# Altium integrated library NSC Audio.IntLib: 691 symbols (part 17 of 18)
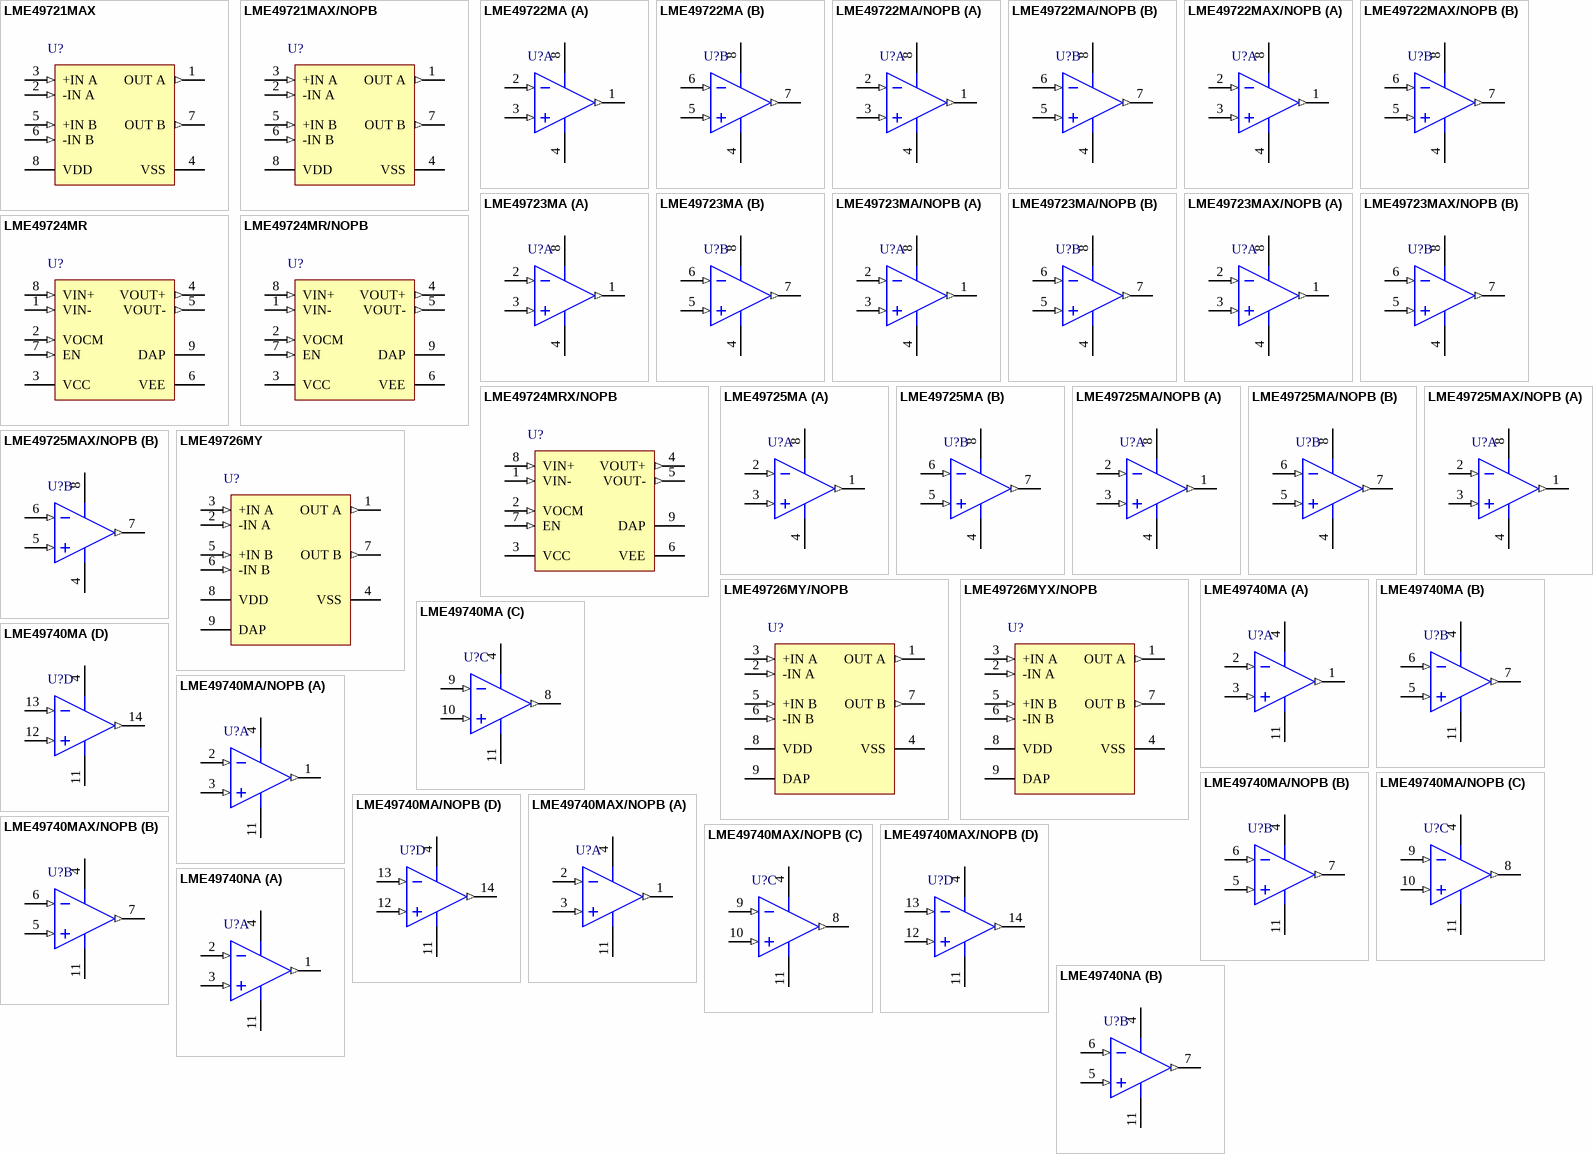
[diagram p43: symbols LME49721MAX to LME49740NA]

## LME49726MY
designator U?
High Current, Low Distortion Rail-to-Rail Output Audio Operational Amplifier, 9-pin eMSOP; PartNumber: LME49726MY; Manufacturer: National Semiconductor; PackageTopMarking: ZXTT*ZA3; PowerWise: N; CompType: Audio IC; Published: 4-Dec-2008; DatasheetVersion: Nov-2008; PackageVersion: revA, Nov-2003; PackageReference: MUY08A; Publisher: Altium Limited; PackageDescription: Molded Mini-SO, Exposed Pad, .118 x .118 x .034in Body, 8 Lead, .0256in Pitch; RoHS: Y; PinCount: 8; Code_JEDEC: MO-187-AA; ComponentLink1Description: LME49726 Datasheet; ComponentLink1URL: http://www.national.com/ds/LM/LME49726.pdf; ComponentLink2Description: LME49726 Web Page; ComponentLink2URL: http://www.national.com/pf/LM/LME49726.html; ComponentLink3Description: MUY08A Package Page; ComponentLink3URL: http://www.national.com/packaging/folders/muy08a.html
footprint MUY08A_N (TSOP, 8-Leads, Body 3x3mm, Pitch 0.65mm, Exposed Pad, IPC Medium Density)
footprint MUY08A_L (TSOP, 8-Leads, Body 3x3mm, Pitch 0.65mm, Exposed Pad, IPC High Density)
footprint MUY08A_M (TSOP, 8-Leads, Body 3x3mm, Pitch 0.65mm, Exposed Pad, IPC Low Density)
pins: 1 OUT A (out), 2 -IN A (in), 3 +IN A (in), 4 VSS (power), 5 +IN B (in), 6 -IN B (in), 7 OUT B (out), 8 VDD (power), 9 DAP (power)

## LME49726MY/NOPB
designator U?
High Current, Low Distortion Rail-to-Rail Output Audio Operational Amplifier, 8-pin Mini SOIC-EP, Pb-Free; PartNumber: LME49726MY/NOPB; Manufacturer: National Semiconductor; PackageTopMarking: ZXTT*ZA3; PowerWise: N; CompType: Audio IC; Published: 1-Mar-2010; DatasheetVersion: Nov-2008; PackageVersion: revA, Nov-2003; PackageReference: MUY08A; Publisher: Altium Limited; PackageDescription: Molded Mini-SO, Exposed Pad, .118 x .118 x .034in Body, 8 Lead, .0256in Pitch; Supplier 1: Digi-Key; Supplier Part Number 1: LME49726MYTR-ND; Supplier 2: Digi-Key; Supplier Part Number 2: LME49726MYCT-ND; Supplier 3: Digi-Key; Supplier Part Number 3: LME49726MYDKR-ND; RoHS: Y; PinCount: 8; Code_JEDEC: MO-187-AA; ComponentLink1Description: LME49726 Datasheet; ComponentLink1URL: http://www.national.com/ds/LM/LME49726.pdf; ComponentLink2Description: LME49726 Web Page; ComponentLink2URL: http://www.national.com/pf/LM/LME49726.html; ComponentLink3Description: MUY08A Package Page; ComponentLink3URL: http://www.national.com/packaging/folders/muy08a.html
footprint MUY08A_N (TSOP, 8-Leads, Body 3x3mm, Pitch 0.65mm, Exposed Pad, IPC Medium Density)
footprint MUY08A_L (TSOP, 8-Leads, Body 3x3mm, Pitch 0.65mm, Exposed Pad, IPC High Density)
footprint MUY08A_M (TSOP, 8-Leads, Body 3x3mm, Pitch 0.65mm, Exposed Pad, IPC Low Density)
pins: 1 OUT A (out), 2 -IN A (in), 3 +IN A (in), 4 VSS (power), 5 +IN B (in), 6 -IN B (in), 7 OUT B (out), 8 VDD (power), 9 DAP (power)

## LME49726MYX/NOPB
designator U?
High Current, Low Distortion Rail-to-Rail Output Audio Operational Amplifier, 8-pin Mini SOIC-EP, Pb-Free; PartNumber: LME49726MYX/NOPB; Manufacturer: National Semiconductor; PackageTopMarking: ZXTT*ZA3; PowerWise: N; CompType: Audio IC; Published: 1-Mar-2010; DatasheetVersion: Nov-2008; PackageVersion: revA, Nov-2003; PackageReference: MUY08A; Publisher: Altium Limited; PackageDescription: Molded Mini-SO, Exposed Pad, .118 x .118 x .034in Body, 8 Lead, .0256in Pitch; Supplier 1: Digi-Key; Supplier Part Number 1: LME49726MYX-ND; RoHS: Y; PinCount: 8; Code_JEDEC: MO-187-AA; ComponentLink1Description: LME49726 Datasheet; ComponentLink1URL: http://www.national.com/ds/LM/LME49726.pdf; ComponentLink2Description: LME49726 Web Page; ComponentLink2URL: http://www.national.com/pf/LM/LME49726.html; ComponentLink3Description: MUY08A Package Page; ComponentLink3URL: http://www.national.com/packaging/folders/muy08a.html
footprint MUY08A_N (TSOP, 8-Leads, Body 3x3mm, Pitch 0.65mm, Exposed Pad, IPC Medium Density)
footprint MUY08A_L (TSOP, 8-Leads, Body 3x3mm, Pitch 0.65mm, Exposed Pad, IPC High Density)
footprint MUY08A_M (TSOP, 8-Leads, Body 3x3mm, Pitch 0.65mm, Exposed Pad, IPC Low Density)
pins: 1 OUT A (out), 2 -IN A (in), 3 +IN A (in), 4 VSS (power), 5 +IN B (in), 6 -IN B (in), 7 OUT B (out), 8 VDD (power), 9 DAP (power)

## LME49740MA
designator U?
Quad High Performance, High Fidelity Audio Operational Amplifier, 14-pin Narrow SOIC; PartNumber: LME49740MA; Manufacturer: National Semiconductor; PackageTopMarking: NSUZXYTT*LME49740*MA; PowerWise: Y; CompType: Audio IC; Published: 4-Dec-2008; LatestRevisionDate: 01-Mar-2010; LatestRevisionNote: Sch layout changed.; DatasheetVersion: Feb-2008; PackageVersion: revJ, Jan-1996; PackageReference: M14A; Publisher: Altium Limited; PackageDescription: Molded Package S.O., .150in Wide, 14 Lead; Supplier 1: Farnell; Supplier Part Number 1: 1433168; RoHS: Y; PinCount: 14; Code_JEDEC: MS-012AB; Code_IPC: SOIC127P600-14; ComponentLink1Description: LME49740 Datasheet; ComponentLink1URL: http://www.national.com/ds/LM/LME49740.pdf; ComponentLink2Description: LME49740 Web Page; ComponentLink2URL: http://www.national.com/pf/LM/LME49740.html; ComponentLink3Description: M14A Package Page; ComponentLink3URL: http://www.national.com/packaging/folders/m14a.html
footprint M14A_N (SOIC, 14-Leads, Body 8.6x3.9mm, Pitch 1.27mm, IPC Medium Density)
footprint M14A_L (SOIC, 14-Leads, Body 8.6x3.9mm, Pitch 1.27mm, IPC High Density)
footprint M14A_M (SOIC, 14-Leads, Body 8.6x3.9mm, Pitch 1.27mm, IPC Low Density)
pins on every part: 4 V+ (power), 11 V- (power)
part A pins: 1 OUT1 (out), 2 -IN1 (in), 3 +IN1 (in)
part B pins: 5 +IN2 (in), 6 -IN2 (in), 7 OUT2 (out)
part C pins: 8 OUT3 (out), 9 -IN3 (in), 10 +IN3 (in)
part D pins: 12 +IN4 (in), 13 -IN4 (in), 14 OUT4 (out)

## LME49740MA/NOPB
designator U?
Quad High Performance, High Fidelity Audio Operational Amplifier, 14-pin Narrow SOIC, Pb-Free; PartNumber: LME49740MA/NOPB; Manufacturer: National Semiconductor; PackageTopMarking: NSUZXYTTE#*LME49740*MA; PowerWise: Y; CompType: Audio IC; Published: 1-Mar-2010; DatasheetVersion: Feb-2008; PackageVersion: revJ, Jan-1996; PackageReference: M14A; Publisher: Altium Limited; PackageDescription: Molded Package S.O., .150in Wide, 14 Lead; Supplier 1: Digi-Key; Supplier Part Number 1: LME49740MA-ND; RoHS: Y; PinCount: 14; Code_JEDEC: MS-012AB; Code_IPC: SOIC127P600-14; ComponentLink1Description: LME49740 Datasheet; ComponentLink1URL: http://www.national.com/ds/LM/LME49740.pdf; ComponentLink2Description: LME49740 Web Page; ComponentLink2URL: http://www.national.com/pf/LM/LME49740.html; ComponentLink3Description: M14A Package Page; ComponentLink3URL: http://www.national.com/packaging/folders/m14a.html
footprint M14A_N (SOIC, 14-Leads, Body 8.6x3.9mm, Pitch 1.27mm, IPC Medium Density)
footprint M14A_L (SOIC, 14-Leads, Body 8.6x3.9mm, Pitch 1.27mm, IPC High Density)
footprint M14A_M (SOIC, 14-Leads, Body 8.6x3.9mm, Pitch 1.27mm, IPC Low Density)
simulation model LME49860 (SUBCKT)
pins on every part: 4 V+ (power), 11 V- (power)
part A pins: 1 OUT1 (out), 2 -IN1 (in), 3 +IN1 (in)
part B pins: 5 +IN2 (in), 6 -IN2 (in), 7 OUT2 (out)
part C pins: 8 OUT3 (out), 9 -IN3 (in), 10 +IN3 (in)
part D pins: 12 +IN4 (in), 13 -IN4 (in), 14 OUT4 (out)

## LME49740MAX/NOPB
designator U?
Quad High Performance, High Fidelity Audio Operational Amplifier, 14-pin Narrow SOIC, Pb-Free; PartNumber: LME49740MAX/NOPB; Manufacturer: National Semiconductor; PackageTopMarking: NSUZXYTTE#*LME49740*MA; PowerWise: Y; CompType: Audio IC; Published: 1-Mar-2010; DatasheetVersion: Feb-2008; PackageVersion: revJ, Jan-1996; PackageReference: M14A; Publisher: Altium Limited; PackageDescription: Molded Package S.O., .150in Wide, 14 Lead; Supplier 1: Digi-Key; Supplier Part Number 1: LME49740MAX-ND; RoHS: Y; PinCount: 14; Code_JEDEC: MS-012AB; Code_IPC: SOIC127P600-14; ComponentLink1Description: LME49740 Datasheet; ComponentLink1URL: http://www.national.com/ds/LM/LME49740.pdf; ComponentLink2Description: LME49740 Web Page; ComponentLink2URL: http://www.national.com/pf/LM/LME49740.html; ComponentLink3Description: M14A Package Page; ComponentLink3URL: http://www.national.com/packaging/folders/m14a.html
footprint M14A_N (SOIC, 14-Leads, Body 8.6x3.9mm, Pitch 1.27mm, IPC Medium Density)
footprint M14A_L (SOIC, 14-Leads, Body 8.6x3.9mm, Pitch 1.27mm, IPC High Density)
footprint M14A_M (SOIC, 14-Leads, Body 8.6x3.9mm, Pitch 1.27mm, IPC Low Density)
simulation model LME49860 (SUBCKT)
pins on every part: 4 V+ (power), 11 V- (power)
part A pins: 1 OUT1 (out), 2 -IN1 (in), 3 +IN1 (in)
part B pins: 5 +IN2 (in), 6 -IN2 (in), 7 OUT2 (out)
part C pins: 8 OUT3 (out), 9 -IN3 (in), 10 +IN3 (in)
part D pins: 12 +IN4 (in), 13 -IN4 (in), 14 OUT4 (out)

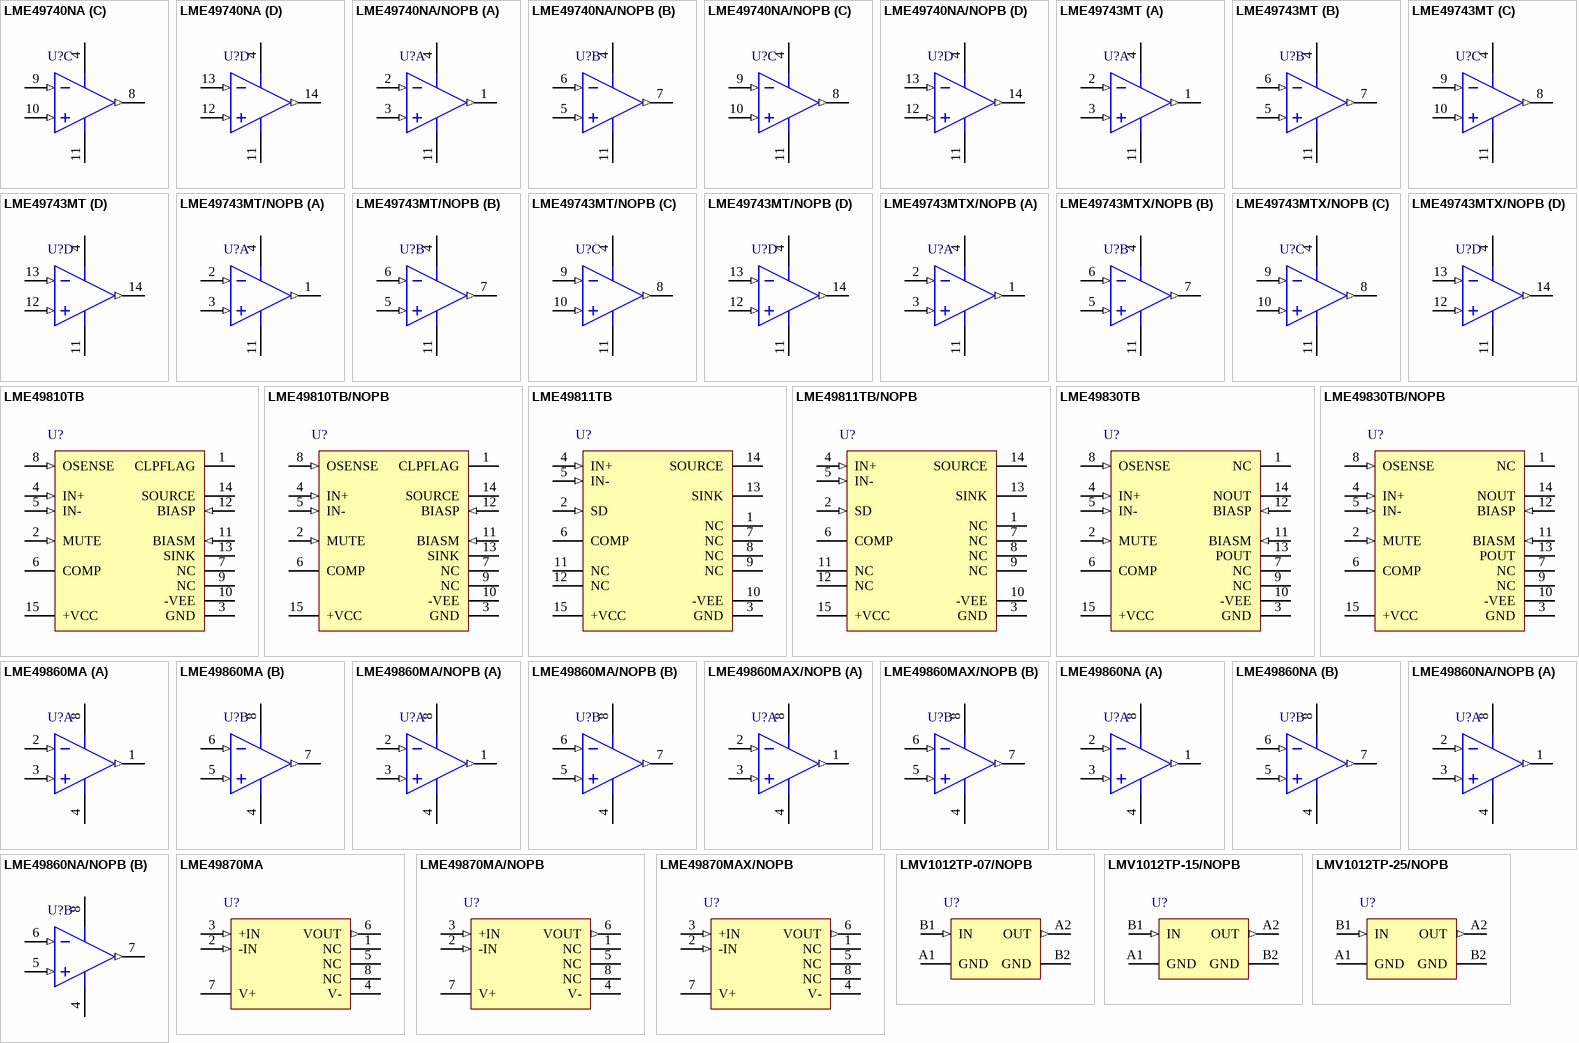
[diagram p25: symbols LME49740NA to LMV1012TP-25/NOPB]

## LME49740NA
designator U?
Quad High Performance, High Fidelity Audio Operational Amplifier, 14-pin MDIP; PartNumber: LME49740NA; Manufacturer: National Semiconductor; PackageTopMarking: NSUZXYYTTE#*LME49740NA; PowerWise: Y; CompType: Audio IC; Published: 4-Dec-2008; LatestRevisionDate: 01-Mar-2010; LatestRevisionNote: Sch layout changed.; DatasheetVersion: Feb-2008; PackageVersion: revG, May-2006; PackageReference: N14A; Publisher: Altium Limited; PackageDescription: MDIP, .750 x .250 x.130in, 14 Lead, .100in Pitch; Supplier 1: Farnell; Supplier Part Number 1: 1433169; RoHS: Y; PinCount: 14; Code_JEDEC: MS-001-AA; ComponentLink1Description: LME49740 Datasheet; ComponentLink1URL: http://www.national.com/ds/LM/LME49740.pdf; ComponentLink2Description: LME49740 Web Page; ComponentLink2URL: http://www.national.com/pf/LM/LME49740.html; ComponentLink3Description: N14A Package Page; ComponentLink3URL: http://www.national.com/packaging/folders/n14a.html
footprint N14A (DIP, 14-Leads, Row Spacing 7.62mm, Pitch 2.54mm, Body 19.56x6.35mm)
pins on every part: 4 V+ (power), 11 V- (power)
part A pins: 1 OUT1 (out), 2 -IN1 (in), 3 +IN1 (in)
part B pins: 5 +IN2 (in), 6 -IN2 (in), 7 OUT2 (out)
part C pins: 8 OUT3 (out), 9 -IN3 (in), 10 +IN3 (in)
part D pins: 12 +IN4 (in), 13 -IN4 (in), 14 OUT4 (out)

## LME49740NA/NOPB
designator U?
Quad High Performance, High Fidelity Audio Operational Amplifier, 14-pin MDIP, Pb-Free; PartNumber: LME49740NA/NOPB; Manufacturer: National Semiconductor; PackageTopMarking: NSUZXYYTTE#*LME49740NA; PowerWise: Y; CompType: Audio IC; Published: 1-Mar-2010; DatasheetVersion: Feb-2008; PackageVersion: revG, May-2006; PackageReference: N14A; Publisher: Altium Limited; PackageDescription: MDIP, .750 x .250 x.130in, 14 Lead, .100in Pitch; Supplier 1: Digi-Key; Supplier Part Number 1: LME49740NA-ND; Supplier 2: Farnell; Supplier Part Number 2: 1693911; RoHS: Y; PinCount: 14; Code_JEDEC: MS-001-AA; ComponentLink1Description: LME49740 Datasheet; ComponentLink1URL: http://www.national.com/ds/LM/LME49740.pdf; ComponentLink2Description: LME49740 Web Page; ComponentLink2URL: http://www.national.com/pf/LM/LME49740.html; ComponentLink3Description: N14A Package Page; ComponentLink3URL: http://www.national.com/packaging/folders/n14a.html
footprint N14A (DIP, 14-Leads, Row Spacing 7.62mm, Pitch 2.54mm, Body 19.56x6.35mm)
simulation model LME49860 (SUBCKT)
pins on every part: 4 V+ (power), 11 V- (power)
part A pins: 1 OUT1 (out), 2 -IN1 (in), 3 +IN1 (in)
part B pins: 5 +IN2 (in), 6 -IN2 (in), 7 OUT2 (out)
part C pins: 8 OUT3 (out), 9 -IN3 (in), 10 +IN3 (in)
part D pins: 12 +IN4 (in), 13 -IN4 (in), 14 OUT4 (out)

## LME49743MT
designator U?
Quad High Performance, High Fidelity Audio Operational Amplifier, 14-pin TSSOP; PartNumber: LME49743MT; Manufacturer: National Semiconductor; PackageTopMarking: NSUZXYTT*L49743*MT; PowerWise: N; CompType: Audio IC; Published: 4-Dec-2008; LatestRevisionDate: 01-Mar-2010; LatestRevisionNote: Sch layout changed.; DatasheetVersion: Jan-2009; PackageVersion: revD, Jun-2003; PackageReference: MTC14; Publisher: Altium Limited; PackageDescription: Molded TSSOP, JEDEC, 5 x 4.4 x 0.9mm Body, 14 Lead, 0.65mm Pitch; RoHS: Y; PinCount: 14; Code_JEDEC: MO-153-AB-1; ComponentLink1Description: LME49743 Datasheet; ComponentLink1URL: http://www.national.com/ds/LM/LME49743.pdf; ComponentLink2Description: LME49743 Web Page; ComponentLink2URL: http://www.national.com/pf/LM/LME49743.html; ComponentLink3Description: MTC14 Package Page; ComponentLink3URL: http://www.national.com/packaging/folders/mtc14.html
footprint MTC14_N (TSOP, 14-Leads, Body 5x4.4mm, Pitch 0.65mm, IPC Medium Density)
footprint MTC14_L (TSOP, 14-Leads, Body 5x4.4mm, Pitch 0.65mm, IPC High Density)
footprint MTC14_M (TSOP, 14-Leads, Body 5x4.4mm, Pitch 0.65mm, IPC Low Density)
pins on every part: 4 V+ (power), 11 V- (power)
part A pins: 1 OUT1 (out), 2 -IN1 (in), 3 +IN1 (in)
part B pins: 5 +IN2 (in), 6 -IN2 (in), 7 OUT2 (out)
part C pins: 8 OUT3 (out), 9 -IN3 (in), 10 +IN3 (in)
part D pins: 12 +IN4 (in), 13 -IN4 (in), 14 OUT4 (out)

## LME49743MT/NOPB
designator U?
Quad High Performance, High Fidelity Audio Operational Amplifier, 14-pin TSSOP, Pb-Free; PartNumber: LME49743MT/NOPB; Manufacturer: National Semiconductor; PackageTopMarking: NSUZXYTT*L49743*MT; PowerWise: N; CompType: Audio IC; Published: 1-Mar-2010; DatasheetVersion: Jan-2009; PackageVersion: revD, Jun-2003; PackageReference: MTC14; Publisher: Altium Limited; PackageDescription: Molded TSSOP, JEDEC, 5 x 4.4 x 0.9mm Body, 14 Lead, 0.65mm Pitch; Supplier 1: Digi-Key; Supplier Part Number 1: LME49743MT-ND; Supplier 2: Farnell; Supplier Part Number 2: 1685406; RoHS: Y; PinCount: 14; Code_JEDEC: MO-153-AB-1; ComponentLink1Description: LME49743 Datasheet; ComponentLink1URL: http://www.national.com/ds/LM/LME49743.pdf; ComponentLink2Description: LME49743 Web Page; ComponentLink2URL: http://www.national.com/pf/LM/LME49743.html; ComponentLink3Description: MTC14 Package Page; ComponentLink3URL: http://www.national.com/packaging/folders/mtc14.html
footprint MTC14_N (TSOP, 14-Leads, Body 5x4.4mm, Pitch 0.65mm, IPC Medium Density)
footprint MTC14_L (TSOP, 14-Leads, Body 5x4.4mm, Pitch 0.65mm, IPC High Density)
footprint MTC14_M (TSOP, 14-Leads, Body 5x4.4mm, Pitch 0.65mm, IPC Low Density)
pins on every part: 4 V+ (power), 11 V- (power)
part A pins: 1 OUT1 (out), 2 -IN1 (in), 3 +IN1 (in)
part B pins: 5 +IN2 (in), 6 -IN2 (in), 7 OUT2 (out)
part C pins: 8 OUT3 (out), 9 -IN3 (in), 10 +IN3 (in)
part D pins: 12 +IN4 (in), 13 -IN4 (in), 14 OUT4 (out)

## LME49743MTX/NOPB
designator U?
Quad High Performance, High Fidelity Audio Operational Amplifier, 14-pin TSSOP, Pb-Free; PartNumber: LME49743MTX/NOPB; Manufacturer: National Semiconductor; PackageTopMarking: NSUZXYTT*L49743*MT; PowerWise: N; CompType: Audio IC; Published: 1-Mar-2010; DatasheetVersion: Jan-2009; PackageVersion: revD, Jun-2003; PackageReference: MTC14; Publisher: Altium Limited; PackageDescription: Molded TSSOP, JEDEC, 5 x 4.4 x 0.9mm Body, 14 Lead, 0.65mm Pitch; Supplier 1: Digi-Key; Supplier Part Number 1: LME49743MTX-ND; RoHS: Y; PinCount: 14; Code_JEDEC: MO-153-AB-1; ComponentLink1Description: LME49743 Datasheet; ComponentLink1URL: http://www.national.com/ds/LM/LME49743.pdf; ComponentLink2Description: LME49743 Web Page; ComponentLink2URL: http://www.national.com/pf/LM/LME49743.html; ComponentLink3Description: MTC14 Package Page; ComponentLink3URL: http://www.national.com/packaging/folders/mtc14.html
footprint MTC14_N (TSOP, 14-Leads, Body 5x4.4mm, Pitch 0.65mm, IPC Medium Density)
footprint MTC14_L (TSOP, 14-Leads, Body 5x4.4mm, Pitch 0.65mm, IPC High Density)
footprint MTC14_M (TSOP, 14-Leads, Body 5x4.4mm, Pitch 0.65mm, IPC Low Density)
pins on every part: 4 V+ (power), 11 V- (power)
part A pins: 1 OUT1 (out), 2 -IN1 (in), 3 +IN1 (in)
part B pins: 5 +IN2 (in), 6 -IN2 (in), 7 OUT2 (out)
part C pins: 8 OUT3 (out), 9 -IN3 (in), 10 +IN3 (in)
part D pins: 12 +IN4 (in), 13 -IN4 (in), 14 OUT4 (out)

## LME49810TB
designator U?
200V Audio Power Amplifier Driver with Baker Clamp, 15-pin TO-247; PartNumber: LME49810TB; Manufacturer: National Semiconductor; PackageTopMarking: NSUZXYTT*LME49810*TB; PowerWise: N; CompType: Audio IC; Published: 4-Dec-2008; DatasheetVersion: Sep-2007; PackageVersion: revA, Feb-2005; PackageReference: TB15A; Publisher: Altium Limited; PackageDescription: TO-247, Molded, 19.0 x 11.5 x 2.54mm, 15 Lead, 0.965mm Pitch; Supplier 1: Farnell; Supplier Part Number 1: 1433160; RoHS: Y; PinCount: 15; ComponentLink1Description: LME49810 Datasheet; ComponentLink1URL: http://www.national.com/ds/LM/LME49810.pdf; ComponentLink2Description: LME49810 Web Page; ComponentLink2URL: http://www.national.com/pf/LM/LME49810.html; ComponentLink3Description: TB15A Package Page; ComponentLink3URL: http://www.national.com/packaging/folders/tb15a.html
footprint TB15A (In-Line; 15 Zig-Zag Leads; Body 19 x 2.54mm; Pitch 0.965mm)
pins: 1 CLPFLAG (oc), 2 MUTE (in), 3 GND (power), 4 IN+ (in), 5 IN- (in), 6 COMP, 7 NC, 8 OSENSE (in), 9 NC, 10 -VEE (power), 11 BIASM (in), 12 BIASP (in), 13 SINK (oc), 14 SOURCE (oe), 15 +VCC (power)

## LME49810TB/NOPB
designator U?
200V Audio Power Amplifier Driver with Baker Clamp, 15-pin TO-247, Pb-Free; PartNumber: LME49810TB/NOPB; Manufacturer: National Semiconductor; PackageTopMarking: NSUZXYTTE#*LME49810*TB; PowerWise: N; CompType: Audio IC; Published: 1-Mar-2010; DatasheetVersion: Sep-2007; PackageVersion: revA, Feb-2005; PackageReference: TB15A; Publisher: Altium Limited; PackageDescription: TO-247, Molded, 19.0 x 11.5 x 2.54mm, 15 Lead, 0.965mm Pitch; Supplier 1: Digi-Key; Supplier Part Number 1: LME49810TB-ND; Supplier 2: Farnell; Supplier Part Number 2: 1694353; RoHS: Y; PinCount: 15; ComponentLink1Description: LME49810 Datasheet; ComponentLink1URL: http://www.national.com/ds/LM/LME49810.pdf; ComponentLink2Description: LME49810 Web Page; ComponentLink2URL: http://www.national.com/pf/LM/LME49810.html; ComponentLink3Description: TB15A Package Page; ComponentLink3URL: http://www.national.com/packaging/folders/tb15a.html
footprint TB15A (In-Line; 15 Zig-Zag Leads; Body 19 x 2.54mm; Pitch 0.965mm)
pins: 1 CLPFLAG (oc), 2 MUTE (in), 3 GND (power), 4 IN+ (in), 5 IN- (in), 6 COMP, 7 NC, 8 OSENSE (in), 9 NC, 10 -VEE (power), 11 BIASM (in), 12 BIASP (in), 13 SINK (oc), 14 SOURCE (oe), 15 +VCC (power)

## LME49811TB
designator U?
High Fidelity 200 Volt Power Amplifier Input Stage with Shutdown, 15-pin TO-247; PartNumber: LME49811TB; Manufacturer: National Semiconductor; PackageTopMarking: NSUZXYTT*LME49811*TB; PowerWise: N; CompType: Audio IC; Published: 4-Dec-2008; DatasheetVersion: Nov-2009; PackageVersion: revA, Feb-2005; PackageReference: TB15A; Publisher: Altium Limited; PackageDescription: TO-247, Molded, 19.0 x 11.5 x 2.54mm, 15 Lead, 0.965mm Pitch; RoHS: Y; PinCount: 15; ComponentLink1Description: LME49811 Datasheet; ComponentLink1URL: http://www.national.com/ds/LM/LME49811.pdf; ComponentLink2Description: LME49811 Web Page; ComponentLink2URL: http://www.national.com/pf/LM/LME49811.html; ComponentLink3Description: TB15A Package Page; ComponentLink3URL: http://www.national.com/packaging/folders/tb15a.html
footprint TB15A (In-Line; 15 Zig-Zag Leads; Body 19 x 2.54mm; Pitch 0.965mm)
pins: 1 NC, 2 SD (in), 3 GND (power), 4 IN+ (in), 5 IN- (in), 6 COMP, 7 NC, 8 NC, 9 NC, 10 -VEE (power), 11 NC, 12 NC, 13 SINK (oc), 14 SOURCE (oe), 15 +VCC (power)

## LME49811TB/NOPB
designator U?
High Fidelity 200 Volt Power Amplifier Input Stage with Shutdown, 15-pin TO-247, Pb-Free; PartNumber: LME49811TB/NOPB; Manufacturer: National Semiconductor; PackageTopMarking: NSUZXYTTE#*LME49811*TB; PowerWise: N; CompType: Audio IC; Published: 1-Mar-2010; DatasheetVersion: Nov-2009; PackageVersion: revA, Feb-2005; PackageReference: TB15A; Publisher: Altium Limited; PackageDescription: TO-247, Molded, 19.0 x 11.5 x 2.54mm, 15 Lead, 0.965mm Pitch; Supplier 1: Digi-Key; Supplier Part Number 1: LME49811TB-ND; Supplier 2: Farnell; Supplier Part Number 2: 1685355; RoHS: Y; PinCount: 15; ComponentLink1Description: LME49811 Datasheet; ComponentLink1URL: http://www.national.com/ds/LM/LME49811.pdf; ComponentLink2Description: LME49811 Web Page; ComponentLink2URL: http://www.national.com/pf/LM/LME49811.html; ComponentLink3Description: TB15A Package Page; ComponentLink3URL: http://www.national.com/packaging/folders/tb15a.html
footprint TB15A (In-Line; 15 Zig-Zag Leads; Body 19 x 2.54mm; Pitch 0.965mm)
pins: 1 NC, 2 SD (in), 3 GND (power), 4 IN+ (in), 5 IN- (in), 6 COMP, 7 NC, 8 NC, 9 NC, 10 -VEE (power), 11 NC, 12 NC, 13 SINK (oc), 14 SOURCE (oe), 15 +VCC (power)

## LME49830TB
designator U?
Mono High Fidelity 200 Volt MOSFET Power Amplifier Input Stage with Mute, 15-pin TO-247; PartNumber: LME49830TB; Manufacturer: National Semiconductor; PackageTopMarking: NSUZXYTT*LME49830*TB; PowerWise: N; CompType: Audio IC; Published: 4-Dec-2008; DatasheetVersion: Jan-2008; PackageVersion: revA, Feb-2005; PackageReference: TB15A; Publisher: Altium Limited; PackageDescription: TO-247, Molded, 19.0 x 11.5 x 2.54mm, 15 Lead, 0.965mm Pitch; RoHS: Y; PinCount: 15; ComponentLink1Description: LME49830 Datasheet; ComponentLink1URL: http://www.national.com/ds/LM/LME49830.pdf; ComponentLink2Description: LME49830 Web Page; ComponentLink2URL: http://www.national.com/pf/LM/LME49830.html; ComponentLink3Description: TB15A Package Page; ComponentLink3URL: http://www.national.com/packaging/folders/tb15a.html
footprint TB15A (In-Line; 15 Zig-Zag Leads; Body 19 x 2.54mm; Pitch 0.965mm)
pins: 1 NC, 2 MUTE (in), 3 GND (power), 4 IN+ (in), 5 IN- (in), 6 COMP, 7 NC, 8 OSENSE (in), 9 NC, 10 -VEE (power), 11 BIASM (in), 12 BIASP (in), 13 POUT (oc), 14 NOUT (oe), 15 +VCC (power)

## LME49830TB/NOPB
designator U?
Mono High Fidelity 200 Volt MOSFET Power Amplifier Input Stage with Mute, 15-pin TO-247, Pb-Free; PartNumber: LME49830TB/NOPB; Manufacturer: National Semiconductor; PackageTopMarking: NSUZXYTTE#*LME49830*TB; PowerWise: N; CompType: Audio IC; Published: 1-Mar-2010; DatasheetVersion: Jan-2008; PackageVersion: revA, Feb-2005; PackageReference: TB15A; Publisher: Altium Limited; PackageDescription: TO-247, Molded, 19.0 x 11.5 x 2.54mm, 15 Lead, 0.965mm Pitch; Supplier 1: Digi-Key; Supplier Part Number 1: LME49830TB-5-ND; RoHS: Y; PinCount: 15; ComponentLink1Description: LME49830 Datasheet; ComponentLink1URL: http://www.national.com/ds/LM/LME49830.pdf; ComponentLink2Description: LME49830 Web Page; ComponentLink2URL: http://www.national.com/pf/LM/LME49830.html; ComponentLink3Description: TB15A Package Page; ComponentLink3URL: http://www.national.com/packaging/folders/tb15a.html
footprint TB15A (In-Line; 15 Zig-Zag Leads; Body 19 x 2.54mm; Pitch 0.965mm)
pins: 1 NC, 2 MUTE (in), 3 GND (power), 4 IN+ (in), 5 IN- (in), 6 COMP, 7 NC, 8 OSENSE (in), 9 NC, 10 -VEE (power), 11 BIASM (in), 12 BIASP (in), 13 POUT (oc), 14 NOUT (oe), 15 +VCC (power)

## LME49860MA
designator U?
44V Dual High Performance, High Fidelity Audio Operational Amplifier, 8-pin Narrow SOIC; PartNumber: LME49860MA; Manufacturer: National Semiconductor; PackageTopMarking: NSZXTT*L49860*MA; PowerWise: N; CompType: Audio IC; Published: 4-Dec-2008; LatestRevisionDate: 01-Mar-2010; LatestRevisionNote: Sch layout changed.; DatasheetVersion: Jul-2007; PackageVersion: revM, May-2009; PackageReference: M08A; Publisher: Altium Limited; PackageDescription: SOIC Narrow, 4.9 x 3.9 x 1.45mm, 8 Lead, 1.27mm Pitch; Supplier 1: Farnell; Supplier Part Number 1: 1433161; RoHS: Y; PinCount: 8; Code_JEDEC: MS-012-AA; Code_IPC: SOIC127P600-8; ComponentLink1Description: LME49860 Datasheet; ComponentLink1URL: http://www.national.com/ds/LM/LME49860.pdf; ComponentLink2Description: LME49860 Web Page; ComponentLink2URL: http://www.national.com/pf/LM/LME49860.html; ComponentLink3Description: M08A Package Page; ComponentLink3URL: http://www.national.com/packaging/folders/m08a.html
footprint M08A_N (SOIC, 8-Leads, Body 4.9x3.9mm, Pitch 1.27mm, IPC Medium Density)
footprint M08A_L (SOIC, 8-Leads, Body 4.9x3.9mm, Pitch 1.27mm, IPC High Density)
footprint M08A_M (SOIC, 8-Leads, Body 4.9x3.9mm, Pitch 1.27mm, IPC Low Density)
pins on every part: 4 V- (power), 8 V+ (power)
part A pins: 1 OUT A (out), 2 IN A (in), 3 IN A (in)
part B pins: 5 IN B (in), 6 IN B (in), 7 OUT B (out)

## LME49860MA/NOPB
designator U?
44V Dual High Performance, High Fidelity Audio Operational Amplifier, 8-pin Narrow SOIC, Pb-Free; PartNumber: LME49860MA/NOPB; Manufacturer: National Semiconductor; PackageTopMarking: NSZXTT*L49860*MA; PowerWise: N; CompType: Audio IC; Published: 1-Mar-2010; DatasheetVersion: Jul-2007; PackageVersion: revM, May-2009; PackageReference: M08A; Publisher: Altium Limited; PackageDescription: SOIC Narrow, 4.9 x 3.9 x 1.45mm, 8 Lead, 1.27mm Pitch; Supplier 1: Digi-Key; Supplier Part Number 1: LME49860MA-ND; Supplier 2: Farnell; Supplier Part Number 2: 1419107; RoHS: Y; PinCount: 8; Code_JEDEC: MS-012-AA; Code_IPC: SOIC127P600-8; ComponentLink1Description: LME49860 Datasheet; ComponentLink1URL: http://www.national.com/ds/LM/LME49860.pdf; ComponentLink2Description: LME49860 Web Page; ComponentLink2URL: http://www.national.com/pf/LM/LME49860.html; ComponentLink3Description: M08A Package Page; ComponentLink3URL: http://www.national.com/packaging/folders/m08a.html
footprint M08A_N (SOIC, 8-Leads, Body 4.9x3.9mm, Pitch 1.27mm, IPC Medium Density)
footprint M08A_L (SOIC, 8-Leads, Body 4.9x3.9mm, Pitch 1.27mm, IPC High Density)
footprint M08A_M (SOIC, 8-Leads, Body 4.9x3.9mm, Pitch 1.27mm, IPC Low Density)
pins on every part: 4 V- (power), 8 V+ (power)
part A pins: 1 OUT A (out), 2 IN A (in), 3 IN A (in)
part B pins: 5 IN B (in), 6 IN B (in), 7 OUT B (out)

## LME49860MAX/NOPB
designator U?
44V Dual High Performance, High Fidelity Audio Operational Amplifier, 8-pin Narrow SOIC, Pb-Free; PartNumber: LME49860MAX/NOPB; Manufacturer: National Semiconductor; PackageTopMarking: NSZXTT*L49860*MA; PowerWise: N; CompType: Audio IC; Published: 1-Mar-2010; DatasheetVersion: Jul-2007; PackageVersion: revM, May-2009; PackageReference: M08A; Publisher: Altium Limited; PackageDescription: SOIC Narrow, 4.9 x 3.9 x 1.45mm, 8 Lead, 1.27mm Pitch; Supplier 1: Digi-Key; Supplier Part Number 1: LME49860MAX-ND; RoHS: Y; PinCount: 8; Code_JEDEC: MS-012-AA; Code_IPC: SOIC127P600-8; ComponentLink1Description: LME49860 Datasheet; ComponentLink1URL: http://www.national.com/ds/LM/LME49860.pdf; ComponentLink2Description: LME49860 Web Page; ComponentLink2URL: http://www.national.com/pf/LM/LME49860.html; ComponentLink3Description: M08A Package Page; ComponentLink3URL: http://www.national.com/packaging/folders/m08a.html
footprint M08A_N (SOIC, 8-Leads, Body 4.9x3.9mm, Pitch 1.27mm, IPC Medium Density)
footprint M08A_L (SOIC, 8-Leads, Body 4.9x3.9mm, Pitch 1.27mm, IPC High Density)
footprint M08A_M (SOIC, 8-Leads, Body 4.9x3.9mm, Pitch 1.27mm, IPC Low Density)
pins on every part: 4 V- (power), 8 V+ (power)
part A pins: 1 OUT A (out), 2 IN A (in), 3 IN A (in)
part B pins: 5 IN B (in), 6 IN B (in), 7 OUT B (out)

## LME49860NA
designator U?
44V Dual High Performance, High Fidelity Audio Operational Amplifier, 8-pin MDIP; PartNumber: LME49860NA; Manufacturer: National Semiconductor; PackageTopMarking: NSUZXYTT*LME*49860NA; PowerWise: N; CompType: Audio IC; Published: 4-Dec-2008; LatestRevisionDate: 01-Mar-2010; LatestRevisionNote: Sch layout changed.; DatasheetVersion: Jul-2007; PackageVersion: revG, May-2006; PackageReference: N08E; Publisher: Altium Limited; PackageDescription: MDIP, .365 x .250 x .130in, 8 Lead, .100in Pitch; Supplier 1: Farnell; Supplier Part Number 1: 1433173; RoHS: Y; PinCount: 8; Code_JEDEC: MS-001-BA; ComponentLink1Description: LME49860 Datasheet; ComponentLink1URL: http://www.national.com/ds/LM/LME49860.pdf; ComponentLink2Description: LME49860 Web Page; ComponentLink2URL: http://www.national.com/pf/LM/LME49860.html; ComponentLink3Description: N08E Package Page; ComponentLink3URL: http://www.national.com/packaging/folders/n08e.html
footprint N08E (DIP, 8-Leads, Row Spacing 7.62mm, Pitch 2.54mm, Body 9.91x6.35mm)
pins on every part: 4 V- (power), 8 V+ (power)
part A pins: 1 OUT A (out), 2 IN A (in), 3 IN A (in)
part B pins: 5 IN B (in), 6 IN B (in), 7 OUT B (out)

## LME49860NA/NOPB
designator U?
44V Dual High Performance, High Fidelity Audio Operational Amplifier, 8-pin MDIP, Pb-Free; PartNumber: LME49860NA/NOPB; Manufacturer: National Semiconductor; PackageTopMarking: NSUZXYTTE#*LME*49860NA; PowerWise: N; CompType: Audio IC; Published: 1-Mar-2010; DatasheetVersion: Jul-2007; PackageVersion: revG, May-2006; PackageReference: N08E; Publisher: Altium Limited; PackageDescription: MDIP, .365 x .250 x .130in, 8 Lead, .100in Pitch; Supplier 1: Digi-Key; Supplier Part Number 1: LME49860NA-ND; Supplier 2: Farnell; Supplier Part Number 2: 1455228; RoHS: Y; PinCount: 8; Code_JEDEC: MS-001-BA; ComponentLink1Description: LME49860 Datasheet; ComponentLink1URL: http://www.national.com/ds/LM/LME49860.pdf; ComponentLink2Description: LME49860 Web Page; ComponentLink2URL: http://www.national.com/pf/LM/LME49860.html; ComponentLink3Description: N08E Package Page; ComponentLink3URL: http://www.national.com/packaging/folders/n08e.html
footprint N08E (DIP, 8-Leads, Row Spacing 7.62mm, Pitch 2.54mm, Body 9.91x6.35mm)
pins on every part: 4 V- (power), 8 V+ (power)
part A pins: 1 OUT A (out), 2 IN A (in), 3 IN A (in)
part B pins: 5 IN B (in), 6 IN B (in), 7 OUT B (out)

## LME49870MA
designator U?
44V Single High Performance, High Fidelity Audio Operational Amplifier, 8-pin Narrow SOIC; PartNumber: LME49870MA; Manufacturer: National Semiconductor; PackageTopMarking: NSZXTT*L49870*MA; PowerWise: N; CompType: Audio IC; Published: 4-Dec-2008; DatasheetVersion: Jan-2008; PackageVersion: revM, May-2009; PackageReference: M08A; Publisher: Altium Limited; PackageDescription: SOIC Narrow, 4.9 x 3.9 x 1.45mm, 8 Lead, 1.27mm Pitch; RoHS: Y; PinCount: 8; Code_JEDEC: MS-012-AA; Code_IPC: SOIC127P600-8; ComponentLink1Description: LME49870 Datasheet; ComponentLink1URL: http://www.national.com/ds/LM/LME49870.pdf; ComponentLink2Description: LME49870 Web Page; ComponentLink2URL: http://www.national.com/pf/LM/LME49870.html; ComponentLink3Description: M08A Package Page; ComponentLink3URL: http://www.national.com/packaging/folders/m08a.html
footprint M08A_N (SOIC, 8-Leads, Body 4.9x3.9mm, Pitch 1.27mm, IPC Medium Density)
footprint M08A_L (SOIC, 8-Leads, Body 4.9x3.9mm, Pitch 1.27mm, IPC High Density)
footprint M08A_M (SOIC, 8-Leads, Body 4.9x3.9mm, Pitch 1.27mm, IPC Low Density)
pins: 1 NC, 2 -IN (in), 3 +IN (in), 4 V- (power), 5 NC, 6 VOUT (out), 7 V+ (power), 8 NC

## LME49870MA/NOPB
designator U?
44V Single High Performance, High Fidelity Audio Operational Amplifier, 8-pin Narrow SOIC, Pb-Free; PartNumber: LME49870MA/NOPB; Manufacturer: National Semiconductor; PackageTopMarking: NSZXTT*L49870*MA; PowerWise: N; CompType: Audio IC; Published: 1-Mar-2010; DatasheetVersion: Jan-2008; PackageVersion: revM, May-2009; PackageReference: M08A; Publisher: Altium Limited; PackageDescription: SOIC Narrow, 4.9 x 3.9 x 1.45mm, 8 Lead, 1.27mm Pitch; Supplier 1: Digi-Key; Supplier Part Number 1: LME49870MA-ND; Supplier 2: Farnell; Supplier Part Number 2: 1685348; RoHS: Y; PinCount: 8; Code_JEDEC: MS-012-AA; Code_IPC: SOIC127P600-8; ComponentLink1Description: LME49870 Datasheet; ComponentLink1URL: http://www.national.com/ds/LM/LME49870.pdf; ComponentLink2Description: LME49870 Web Page; ComponentLink2URL: http://www.national.com/pf/LM/LME49870.html; ComponentLink3Description: M08A Package Page; ComponentLink3URL: http://www.national.com/packaging/folders/m08a.html
footprint M08A_N (SOIC, 8-Leads, Body 4.9x3.9mm, Pitch 1.27mm, IPC Medium Density)
footprint M08A_L (SOIC, 8-Leads, Body 4.9x3.9mm, Pitch 1.27mm, IPC High Density)
footprint M08A_M (SOIC, 8-Leads, Body 4.9x3.9mm, Pitch 1.27mm, IPC Low Density)
pins: 1 NC, 2 -IN (in), 3 +IN (in), 4 V- (power), 5 NC, 6 VOUT (out), 7 V+ (power), 8 NC

## LME49870MAX/NOPB
designator U?
44V Single High Performance, High Fidelity Audio Operational Amplifier, 8-pin Narrow SOIC, Pb-Free; PartNumber: LME49870MAX/NOPB; Manufacturer: National Semiconductor; PackageTopMarking: NSZXTT*L49870*MA; PowerWise: N; CompType: Audio IC; Published: 1-Mar-2010; DatasheetVersion: Jan-2008; PackageVersion: revM, May-2009; PackageReference: M08A; Publisher: Altium Limited; PackageDescription: SOIC Narrow, 4.9 x 3.9 x 1.45mm, 8 Lead, 1.27mm Pitch; Supplier 1: Digi-Key; Supplier Part Number 1: LME49870MAX-ND; RoHS: Y; PinCount: 8; Code_JEDEC: MS-012-AA; Code_IPC: SOIC127P600-8; ComponentLink1Description: LME49870 Datasheet; ComponentLink1URL: http://www.national.com/ds/LM/LME49870.pdf; ComponentLink2Description: LME49870 Web Page; ComponentLink2URL: http://www.national.com/pf/LM/LME49870.html; ComponentLink3Description: M08A Package Page; ComponentLink3URL: http://www.national.com/packaging/folders/m08a.html
footprint M08A_N (SOIC, 8-Leads, Body 4.9x3.9mm, Pitch 1.27mm, IPC Medium Density)
footprint M08A_L (SOIC, 8-Leads, Body 4.9x3.9mm, Pitch 1.27mm, IPC High Density)
footprint M08A_M (SOIC, 8-Leads, Body 4.9x3.9mm, Pitch 1.27mm, IPC Low Density)
pins: 1 NC, 2 -IN (in), 3 +IN (in), 4 V- (power), 5 NC, 6 VOUT (out), 7 V+ (power), 8 NC

## LMV1012TP-07/NOPB
designator U?
Analog Pre-Amplified IC's for High Gain Microphones, 4 pin Micro SMD, Pb-Free; PartNumber: LMV1012TP-07/NOPB; Manufacturer: National Semiconductor; PackageTopMarking: X*I; PowerWise: N; CompType: Audio IC; Published: 1-Mar-2010; DatasheetVersion: Oct-2005; PackageVersion: revA, Feb-2002; PackageReference: TPA04GKA; Publisher: Altium Limited; PackageDescription: Thin Micro SMD, 4 Bump, 0.5mm Pitch; Supplier 1: Digi-Key; Supplier Part Number 1: LMV1012TP-07TR-ND; Supplier 2: Digi-Key; Supplier Part Number 2: LMV1012TP-07CT-ND; Supplier 3: Digi-Key; Supplier Part Number 3: LMV1012TP-07DKR-ND; RoHS: Y; PinCount: 4; Code_JEDEC: MO-211-BA; ComponentLink1Description: LMV1012 Datasheet; ComponentLink1URL: http://www.national.com/ds/LM/LMV1012.pdf; ComponentLink2Description: LMV1012 Web Page; ComponentLink2URL: http://www.national.com/pf/LM/LMV1012.html; ComponentLink3Description: TPA04GKA Package Page; ComponentLink3URL: http://www.national.com/packaging/folders/tpa04gka.html
footprint TPA04GKA (Micro SMD, 4-Leads, Body 1.01x0.93mm, Pitch 0.5mm, NSC Recommended)
pins: A1 GND (power), A2 OUT (out), B1 IN (in), B2 GND (power)

## LMV1012TP-15/NOPB
designator U?
Analog Pre-Amplified IC's for High Gain Microphones, 4-pin Micro SMD, Pb-Free; PartNumber: LMV1012TPX-15/NOPB; Manufacturer: National Semiconductor; PackageTopMarking: X*I; PowerWise: N; CompType: Audio IC; Published: 1-Mar-2010; DatasheetVersion: Oct-2005; PackageVersion: revA, Feb-2002; PackageReference: TPA04GKA; Publisher: Altium Limited; PackageDescription: Thin Micro SMD, 4 Bump, 0.5mm Pitch; RoHS: Y; PinCount: 4; Code_JEDEC: MO-211-BA; ComponentLink1Description: LMV1012 Datasheet; ComponentLink1URL: http://www.national.com/ds/LM/LMV1012.pdf; ComponentLink2Description: LMV1012 Web Page; ComponentLink2URL: http://www.national.com/pf/LM/LMV1012.html; ComponentLink3Description: TPA04GKA Package Page; ComponentLink3URL: http://www.national.com/packaging/folders/tpa04gka.html
footprint TPA04GKA (Micro SMD, 4-Leads, Body 1.01x0.93mm, Pitch 0.5mm, NSC Recommended)
pins: A1 GND (power), A2 OUT (out), B1 IN (in), B2 GND (power)

## LMV1012TP-25/NOPB
designator U?
Analog Pre-Amplified IC's for High Gain Microphones, 4-pin Micro SMD, Pb-Free; PartNumber: LMV1012TPX-25/NOPB; Manufacturer: National Semiconductor; PackageTopMarking: X*I; PowerWise: N; CompType: Audio IC; Published: 1-Mar-2010; DatasheetVersion: Oct-2005; PackageVersion: revA, Feb-2002; PackageReference: TPA04GKA; Publisher: Altium Limited; PackageDescription: Thin Micro SMD, 4 Bump, 0.5mm Pitch; Supplier 1: Digi-Key; Supplier Part Number 1: LMV1012TP-25TR-ND; Supplier 2: Digi-Key; Supplier Part Number 2: LMV1012TP-25CT-ND; Supplier 3: Digi-Key; Supplier Part Number 3: LMV1012TP-25DKR-ND; RoHS: Y; PinCount: 4; Code_JEDEC: MO-211-BA; ComponentLink1Description: LMV1012 Datasheet; ComponentLink1URL: http://www.national.com/ds/LM/LMV1012.pdf; ComponentLink2Description: LMV1012 Web Page; ComponentLink2URL: http://www.national.com/pf/LM/LMV1012.html; ComponentLink3Description: TPA04GKA Package Page; ComponentLink3URL: http://www.national.com/packaging/folders/tpa04gka.html
footprint TPA04GKA (Micro SMD, 4-Leads, Body 1.01x0.93mm, Pitch 0.5mm, NSC Recommended)
pins: A1 GND (power), A2 OUT (out), B1 IN (in), B2 GND (power)

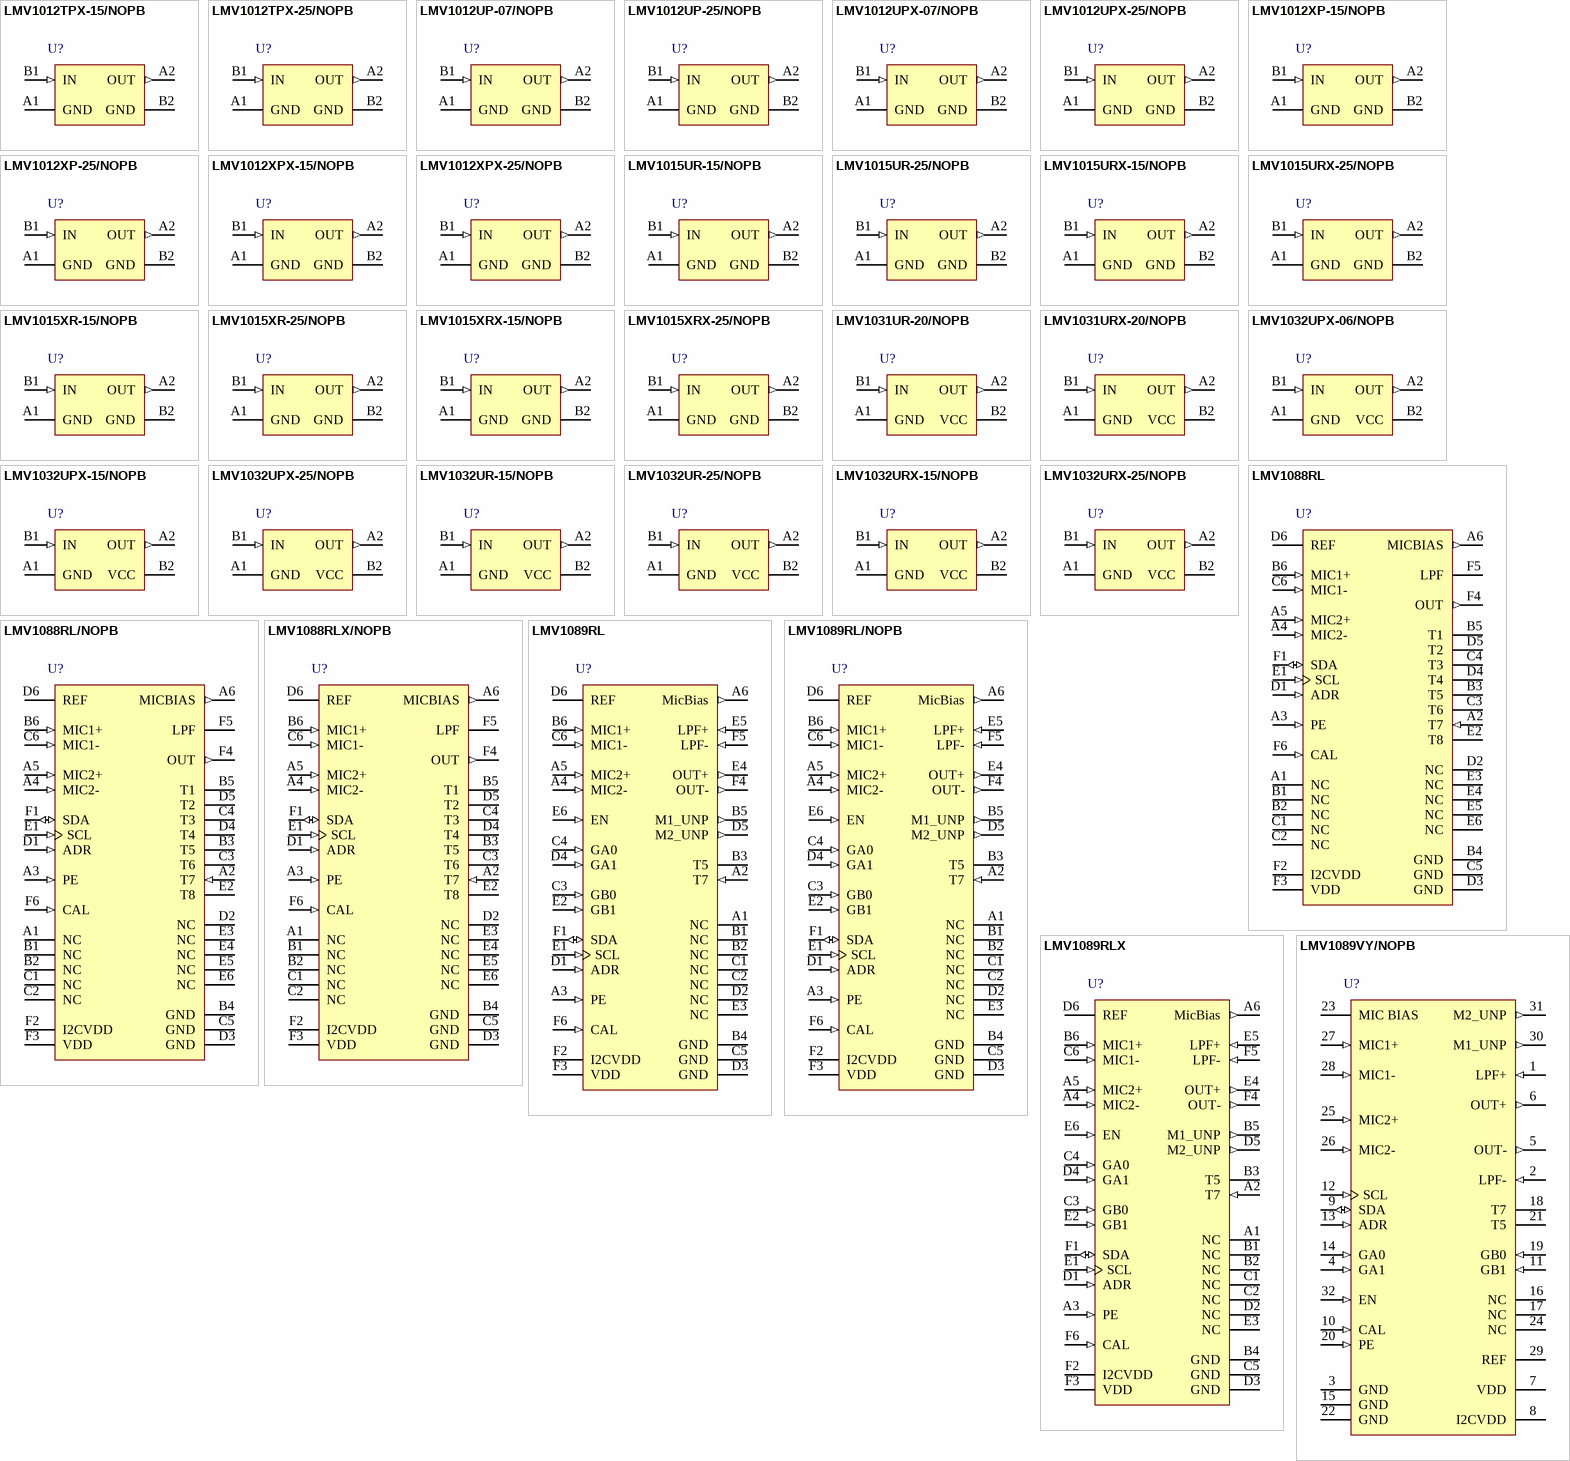
[diagram p26: symbols LMV1012TPX-15/NOPB to LMV1089VY/NOPB]

## LMV1012TPX-15/NOPB
designator U?
Analog Pre-Amplified IC's for High Gain Microphones, 4 pin MICRO SMD; PartNumber: LMV1012TPX-15/NOPB; Manufacturer: National Semiconductor; PackageTopMarking: X*I; PowerWise: N; CompType: Audio IC; Published: 16-Nov-2010; DatasheetVersion: Oct-2005; PackageVersion: revA, Feb-2002; PackageReference: TPA04GKA; Publisher: Altium Limited; PackageDescription: Thin Micro SMD, 4 Bump, 0.5mm Pitch; Supplier 1: Digi-Key; Supplier Part Number 1: LMV1012TPX-15-ND; RoHS: Y; PinCount: 4; Code_JEDEC: MO-211-BA; ComponentLink1Description: LMV1012 Datasheet; ComponentLink1URL: http://www.national.com/ds/LM/LMV1012.pdf; ComponentLink2Description: LMV1012 Web Page; ComponentLink2URL: http://www.national.com/pf/LM/LMV1012.html; ComponentLink3Description: TPA04GKA Package Page; ComponentLink3URL: http://www.national.com/packaging/folders/tpa04gka.html
footprint TPA04GKA (Micro SMD, 4-Leads, Body 1.01x0.93mm, Pitch 0.5mm, NSC Recommended)
pins: A1 GND (power), A2 OUT (out), B1 IN (in), B2 GND (power)

## LMV1012TPX-25/NOPB
designator U?
Analog Pre-Amplified IC's for High Gain Microphones, 4 pin MICRO SMD; PartNumber: LMV1012TPX-25/NOPB; Manufacturer: National Semiconductor; PackageTopMarking: X*I; PowerWise: N; CompType: Audio IC; Published: 16-Nov-2010; DatasheetVersion: Oct-2005; PackageVersion: revA, Feb-2002; PackageReference: TPA04GKA; Publisher: Altium Limited; PackageDescription: Thin Micro SMD, 4 Bump, 0.5mm Pitch; Supplier 1: Digi-Key; Supplier Part Number 1: LMV1012TPX-25-ND; RoHS: Y; PinCount: 4; Code_JEDEC: MO-211-BA; ComponentLink1Description: LMV1012 Datasheet; ComponentLink1URL: http://www.national.com/ds/LM/LMV1012.pdf; ComponentLink2Description: LMV1012 Web Page; ComponentLink2URL: http://www.national.com/pf/LM/LMV1012.html; ComponentLink3Description: TPA04GKA Package Page; ComponentLink3URL: http://www.national.com/packaging/folders/tpa04gka.html
footprint TPA04GKA (Micro SMD, 4-Leads, Body 1.01x0.93mm, Pitch 0.5mm, NSC Recommended)
pins: A1 GND (power), A2 OUT (out), B1 IN (in), B2 GND (power)

## LMV1012UP-07/NOPB
designator U?
Analog Pre-Amplified IC's for High Gain Microphones, 4-pin Micro SMD, Pb-Free; PartNumber: LMV1012UPX-07/NOPB; Manufacturer: National Semiconductor; PackageTopMarking: X*I; PowerWise: N; CompType: Audio IC; Published: 1-Mar-2010; DatasheetVersion: Oct-2005; PackageVersion: revB, Mar-2003; PackageReference: UPA04GKA; Publisher: Altium Limited; PackageDescription: Ultra Thin Micro SMD, 4 Bump, 0.5mm Pitch; Supplier 1: Digi-Key; Supplier Part Number 1: LMV1012UP-07TR-ND; Supplier 2: Digi-Key; Supplier Part Number 2: LMV1012UP-07CT-ND; Supplier 3: Digi-Key; Supplier Part Number 3: LMV1012UP-07DKR-ND; RoHS: Y; PinCount: 4; Code_JEDEC: MO-211-CA; ComponentLink1Description: LMV1012 Datasheet; ComponentLink1URL: http://www.national.com/ds/LM/LMV1012.pdf; ComponentLink2Description: LMV1012 Web Page; ComponentLink2URL: http://www.national.com/pf/LM/LMV1012.html; ComponentLink3Description: UPA04GKA Package Page; ComponentLink3URL: http://www.national.com/packaging/folders/upa04gka.html
footprint UPA04GKA (Micro SMD, 4-Leads, Body 1.01x0.93mm, Pitch 0.5mm, NSC Recommended)
pins: A1 GND (power), A2 OUT (out), B1 IN (in), B2 GND (power)

## LMV1012UP-25/NOPB
designator U?
Analog Pre-Amplified IC's for High Gain Microphones, 4-pin Micro SMD, Pb-Free; PartNumber: LMV1012UPX-25/NOPB; Manufacturer: National Semiconductor; PackageTopMarking: X*I; PowerWise: N; CompType: Audio IC; Published: 1-Mar-2010; DatasheetVersion: Oct-2005; PackageVersion: revB, Mar-2003; PackageReference: UPA04GKA; Publisher: Altium Limited; PackageDescription: Ultra Thin Micro SMD, 4 Bump, 0.5mm Pitch; Supplier 1: Digi-Key; Supplier Part Number 1: LMV1012UP-25TR-ND; Supplier 2: Digi-Key; Supplier Part Number 2: LMV1012UP-25CT-ND; Supplier 3: Digi-Key; Supplier Part Number 3: LMV1012UP-25DKR-ND; RoHS: Y; PinCount: 4; Code_JEDEC: MO-211-CA; ComponentLink1Description: LMV1012 Datasheet; ComponentLink1URL: http://www.national.com/ds/LM/LMV1012.pdf; ComponentLink2Description: LMV1012 Web Page; ComponentLink2URL: http://www.national.com/pf/LM/LMV1012.html; ComponentLink3Description: UPA04GKA Package Page; ComponentLink3URL: http://www.national.com/packaging/folders/upa04gka.html
footprint UPA04GKA (Micro SMD, 4-Leads, Body 1.01x0.93mm, Pitch 0.5mm, NSC Recommended)
pins: A1 GND (power), A2 OUT (out), B1 IN (in), B2 GND (power)

## LMV1012UPX-07/NOPB
designator U?
Analog Pre-Amplified IC's for High Gain Microphones, 4 pin MICRO SMD; PartNumber: LMV1012UPX-07/NOPB; Manufacturer: National Semiconductor; PackageTopMarking: X*I; PowerWise: N; CompType: Audio IC; Published: 16-Nov-2010; DatasheetVersion: Oct-2005; PackageVersion: revB, Mar-2003; PackageReference: UPA04GKA; Publisher: Altium Limited; PackageDescription: Ultra Thin Micro SMD, 4 Bump, 0.5mm Pitch; Supplier 1: Digi-Key; Supplier Part Number 1: LMV1012UPX-07TR-ND; Supplier 2: Digi-Key; Supplier Part Number 2: LMV1012UPX-07CT-ND; Supplier 3: Digi-Key; Supplier Part Number 3: LMV1012UPX-07DKR-ND; RoHS: Y; PinCount: 4; Code_JEDEC: MO-211-CA; ComponentLink1Description: LMV1012 Datasheet; ComponentLink1URL: http://www.national.com/ds/LM/LMV1012.pdf; ComponentLink2Description: LMV1012 Web Page; ComponentLink2URL: http://www.national.com/pf/LM/LMV1012.html; ComponentLink3Description: UPA04GKA Package Page; ComponentLink3URL: http://www.national.com/packaging/folders/upa04gka.html
footprint UPA04GKA (Micro SMD, 4-Leads, Body 1.01x0.93mm, Pitch 0.5mm, NSC Recommended)
pins: A1 GND (power), A2 OUT (out), B1 IN (in), B2 GND (power)

## LMV1012UPX-25/NOPB
designator U?
Analog Pre-Amplified IC's for High Gain Microphones, 4 pin MICRO SMD; PartNumber: LMV1012UPX-25/NOPB; Manufacturer: National Semiconductor; PackageTopMarking: X*I; PowerWise: N; CompType: Audio IC; Published: 16-Nov-2010; DatasheetVersion: Oct-2005; PackageVersion: revB, Mar-2003; PackageReference: UPA04GKA; Publisher: Altium Limited; PackageDescription: Ultra Thin Micro SMD, 4 Bump, 0.5mm Pitch; Supplier 1: Digi-Key; Supplier Part Number 1: LMV1012UPX-25-ND; RoHS: Y; PinCount: 4; Code_JEDEC: MO-211-CA; ComponentLink1Description: LMV1012 Datasheet; ComponentLink1URL: http://www.national.com/ds/LM/LMV1012.pdf; ComponentLink2Description: LMV1012 Web Page; ComponentLink2URL: http://www.national.com/pf/LM/LMV1012.html; ComponentLink3Description: UPA04GKA Package Page; ComponentLink3URL: http://www.national.com/packaging/folders/upa04gka.html
footprint UPA04GKA (Micro SMD, 4-Leads, Body 1.01x0.93mm, Pitch 0.5mm, NSC Recommended)
pins: A1 GND (power), A2 OUT (out), B1 IN (in), B2 GND (power)

## LMV1012XP-15/NOPB
designator U?
Analog Pre-Amplified IC's for High Gain Microphones, 4-pin Micro SMD, Pb-Free; PartNumber: LMV1012XPX-15/NOPB; Manufacturer: National Semiconductor; PackageTopMarking: X*I; PowerWise: N; CompType: Audio IC; Published: 1-Mar-2010; DatasheetVersion: Oct-2005; PackageVersion: revB, Feb-2004; PackageReference: XPA04HLA; Publisher: Altium Limited; PackageDescription: Extreme Thin Micro SMD, 4 Bump, 0.5mm Pitch; Supplier 1: Digi-Key; Supplier Part Number 1: LMV1012XP-15TR-ND; Supplier 2: Digi-Key; Supplier Part Number 2: LMV1012XP-15CT-ND; Supplier 3: Digi-Key; Supplier Part Number 3: LMV1012XP-15DKR-ND; RoHS: Y; PinCount: 4; Code_JEDEC: MO-211-CA; ComponentLink1Description: LMV1012 Datasheet; ComponentLink1URL: http://www.national.com/ds/LM/LMV1012.pdf; ComponentLink2Description: LMV1012 Web Page; ComponentLink2URL: http://www.national.com/pf/LM/LMV1012.html; ComponentLink3Description: XPA04HLA Package Page; ComponentLink3URL: http://www.national.com/packaging/folders/xpa04hla.html
footprint XPA04HLA (Micro SMD, 4-Leads, Body 1.03x0.96mm, Pitch 0.5mm, NSC Recommended)
pins: A1 GND (power), A2 OUT (out), B1 IN (in), B2 GND (power)

## LMV1012XP-25/NOPB
designator U?
Analog Pre-Amplified IC's for High Gain Microphones, 4-pin Micro SMD, Pb-Free; PartNumber: LMV1012XPX-25/NOPB; Manufacturer: National Semiconductor; PackageTopMarking: X*I; PowerWise: N; CompType: Audio IC; Published: 1-Mar-2010; DatasheetVersion: Oct-2005; PackageVersion: revB, Feb-2004; PackageReference: XPA04HLA; Publisher: Altium Limited; PackageDescription: Extreme Thin Micro SMD, 4 Bump, 0.5mm Pitch; Supplier 1: Digi-Key; Supplier Part Number 1: LMV1012XP-25TR-ND; Supplier 2: Digi-Key; Supplier Part Number 2: LMV1012XP-25CT-ND; Supplier 3: Digi-Key; Supplier Part Number 3: LMV1012XP-25DKR-ND; RoHS: Y; PinCount: 4; Code_JEDEC: MO-211-CA; ComponentLink1Description: LMV1012 Datasheet; ComponentLink1URL: http://www.national.com/ds/LM/LMV1012.pdf; ComponentLink2Description: LMV1012 Web Page; ComponentLink2URL: http://www.national.com/pf/LM/LMV1012.html; ComponentLink3Description: XPA04HLA Package Page; ComponentLink3URL: http://www.national.com/packaging/folders/xpa04hla.html
footprint XPA04HLA (Micro SMD, 4-Leads, Body 1.03x0.96mm, Pitch 0.5mm, NSC Recommended)
pins: A1 GND (power), A2 OUT (out), B1 IN (in), B2 GND (power)

## LMV1012XPX-15/NOPB
designator U?
Analog Pre-Amplified IC's for High Gain Microphones, 4 pin MICRO SMD; PartNumber: LMV1012XPX-15/NOPB; Manufacturer: National Semiconductor; PackageTopMarking: X*I; PowerWise: N; CompType: Audio IC; Published: 16-Nov-2010; DatasheetVersion: Oct-2005; PackageVersion: revB, Feb-2004; PackageReference: XPA04HLA; Publisher: Altium Limited; PackageDescription: Extreme Thin Micro SMD, 4 Bump, 0.5mm Pitch; Supplier 1: Digi-Key; Supplier Part Number 1: LMV1012XPX-15-ND; RoHS: Y; PinCount: 4; Code_JEDEC: MO-211-CA; ComponentLink1Description: LMV1012 Datasheet; ComponentLink1URL: http://www.national.com/ds/LM/LMV1012.pdf; ComponentLink2Description: LMV1012 Web Page; ComponentLink2URL: http://www.national.com/pf/LM/LMV1012.html; ComponentLink3Description: XPA04HLA Package Page; ComponentLink3URL: http://www.national.com/packaging/folders/xpa04hla.html
footprint XPA04HLA (Micro SMD, 4-Leads, Body 1.03x0.96mm, Pitch 0.5mm, NSC Recommended)
pins: A1 GND (power), A2 OUT (out), B1 IN (in), B2 GND (power)

## LMV1012XPX-25/NOPB
designator U?
Analog Pre-Amplified IC's for High Gain Microphones, 4 pin MICRO SMD; PartNumber: LMV1012XPX-25/NOPB; Manufacturer: National Semiconductor; PackageTopMarking: X*I; PowerWise: N; CompType: Audio IC; Published: 16-Nov-2010; DatasheetVersion: Oct-2005; PackageVersion: revB, Feb-2004; PackageReference: XPA04HLA; Publisher: Altium Limited; PackageDescription: Extreme Thin Micro SMD, 4 Bump, 0.5mm Pitch; Supplier 1: Digi-Key; Supplier Part Number 1: LMV1012XPX-25-ND; RoHS: Y; PinCount: 4; Code_JEDEC: MO-211-CA; ComponentLink1Description: LMV1012 Datasheet; ComponentLink1URL: http://www.national.com/ds/LM/LMV1012.pdf; ComponentLink2Description: LMV1012 Web Page; ComponentLink2URL: http://www.national.com/pf/LM/LMV1012.html; ComponentLink3Description: XPA04HLA Package Page; ComponentLink3URL: http://www.national.com/packaging/folders/xpa04hla.html
footprint XPA04HLA (Micro SMD, 4-Leads, Body 1.03x0.96mm, Pitch 0.5mm, NSC Recommended)
pins: A1 GND (power), A2 OUT (out), B1 IN (in), B2 GND (power)

## LMV1015UR-15/NOPB
designator U?
Analog Series Built-in Gain IC's for High Sensitivity 2-Wire Microphones, 4-pin Micro SMD, Pb-Free; PartNumber: LMV1015URX-15/NOPB; Manufacturer: National Semiconductor; PackageTopMarking: X*I; PowerWise: N; CompType: Audio IC; Published: 1-Mar-2010; DatasheetVersion: May-2005; PackageVersion: revC, Mar-2005; PackageReference: URA04ADA; Publisher: Altium Limited; PackageDescription: Ultra Thin Micro SMD, 4 Bump (Large), 0.5mm Pitch; Supplier 1: Digi-Key; Supplier Part Number 1: LMV1015UR-15TR-ND; Supplier 2: Digi-Key; Supplier Part Number 2: LMV1015UR-15CT-ND; Supplier 3: Digi-Key; Supplier Part Number 3: LMV1015UR-15DKR-ND; RoHS: Y; PinCount: 4; ComponentLink1Description: LMV1015 Datasheet; ComponentLink1URL: http://www.national.com/ds/LM/LMV1015.pdf; ComponentLink2Description: LMV1015 Web Page; ComponentLink2URL: http://www.national.com/pf/LM/LMV1015.html; ComponentLink3Description: URA04ADA Package Page; ComponentLink3URL: http://www.national.com/packaging/folders/ura04ada.html
footprint URA04ADA (Micro SMD, 4-Leads, Body 1.05x0.98mm, Pitch 0.5mm, NSC Recommended)
pins: A1 GND (power), A2 OUT (out), B1 IN (in), B2 GND (power)

## LMV1015UR-25/NOPB
designator U?
Analog Series Built-in Gain IC's for High Sensitivity 2-Wire Microphones, 4-pin Micro SMD, Pb-Free; PartNumber: LMV1015URX-25/NOPB; Manufacturer: National Semiconductor; PackageTopMarking: X*I; PowerWise: N; CompType: Audio IC; Published: 1-Mar-2010; DatasheetVersion: May-2005; PackageVersion: revC, Mar-2005; PackageReference: URA04ADA; Publisher: Altium Limited; PackageDescription: Ultra Thin Micro SMD, 4 Bump (Large), 0.5mm Pitch; Supplier 1: Digi-Key; Supplier Part Number 1: LMV1015UR-25TR-ND; Supplier 2: Digi-Key; Supplier Part Number 2: LMV1015UR-25CT-ND; Supplier 3: Digi-Key; Supplier Part Number 3: LMV1015UR-25DKR-ND; RoHS: Y; PinCount: 4; ComponentLink1Description: LMV1015 Datasheet; ComponentLink1URL: http://www.national.com/ds/LM/LMV1015.pdf; ComponentLink2Description: LMV1015 Web Page; ComponentLink2URL: http://www.national.com/pf/LM/LMV1015.html; ComponentLink3Description: URA04ADA Package Page; ComponentLink3URL: http://www.national.com/packaging/folders/ura04ada.html
footprint URA04ADA (Micro SMD, 4-Leads, Body 1.05x0.98mm, Pitch 0.5mm, NSC Recommended)
pins: A1 GND (power), A2 OUT (out), B1 IN (in), B2 GND (power)